# Altium footprint library BJTsECE.PcbLib: 2 footprints
Each footprint in its own frame and in the unit in brackets; x right, y up, seen from the top. Pads: shape width x height; smd on the part's side, far side on the other; paste and mask are expansions set on the pad; w line width, h text height; cw(c..) or ccw(c..) is an arc to the next point about the centre after c.
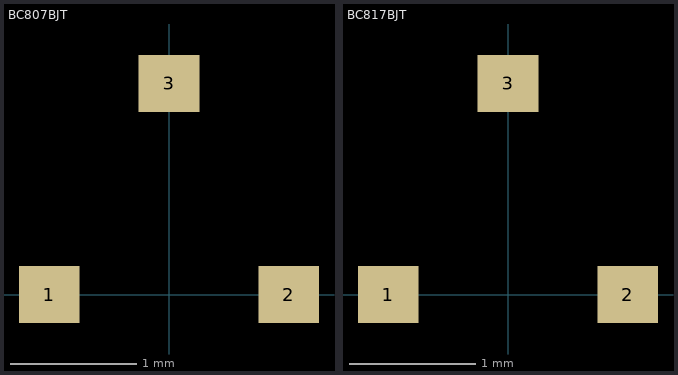
[diagram p0: the footprints below, top view; thin cyan lines are the x and y axes]

## BC807BJT [mm]
height 1.1
pads (3):
  rect 0.48x0.45 smd: 1(-0.95,0) 2(0.95,0) 3(0,1.675)

## BC817BJT [mm]
height 1.1
pads (3):
  rect 0.48x0.45 smd: 1(-0.95,0) 2(0.95,0) 3(0,1.675)